# EAGLE library part SD_MODULE (library XiaoWeatherStation)
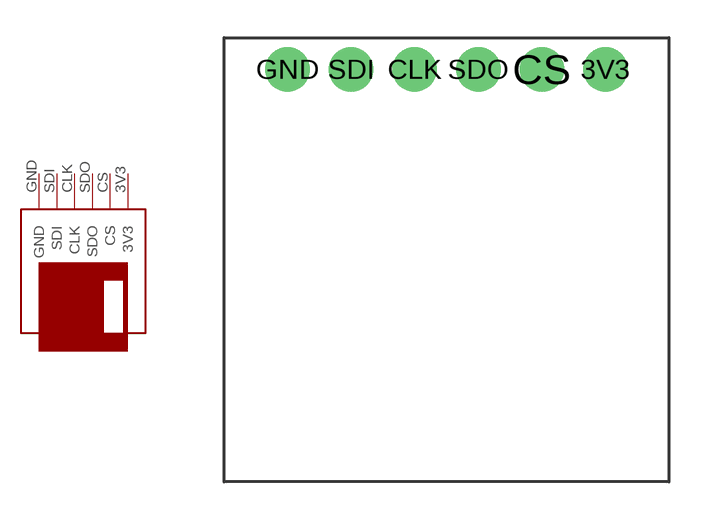
[diagram p1: symbol with the pads of SD_MODULE; footprint SD_MODULE]

Designator prefix -

## SD_MODULE  [SD_MODULE]
3V3  3V3
CLK  CLK
CS  CS
GND  GND
SDI  SDI
SDO  SDO

## Footprint SD_MODULE (pad centres in mm)
drill 0.8 pad 1.778: 3V3 15.24,16.51; CLK 7.62,16.51; CS 12.7,16.51; GND 2.54,16.51; SDI 5.08,16.51; SDO 10.16,16.51